# Altium schematic symbol library 2311765-1.SchLib: 1 symbol
Pins are listed as number, name and electrical type; pins without a type are passive.

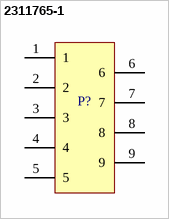
[diagram p0: symbol 2311765-1]

## 2311765-1
designator P?
DB9 Connector
pins: 1, 2, 3, 4, 5, 6, 7, 8, 9